# EAGLE library part IRS10752 (library lolomolo)
MOSFET gate Driver 200ma
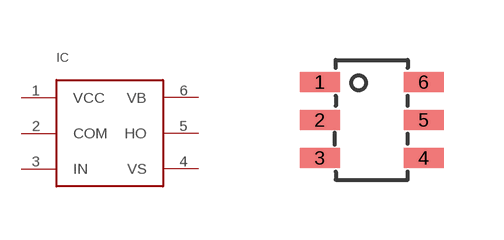
[diagram p2: symbol with the pads of TSOT23-6; footprint TSOT23-6]

Designator prefix IC

## IRS10752  [TSOT23-6]
1  VCC
2  COM
3  IN
4  VS
5  HO
6  VB

## Footprint TSOT23-6 (pad centres in mm)
smd 1 x 0.5: 1 -1.27,1.27; 2 -1.27,0.32; 3 -1.27,-0.63; 4 1.33,-0.63; 5 1.33,0.32; 6 1.33,1.27